# Altium schematic symbol library GRM31CR61E476ME44K.SchLib: 1 symbol
Pins are listed as number, name and electrical type; pins without a type are passive.

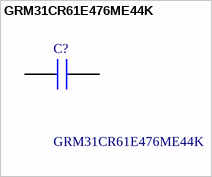
[diagram p0: symbol GRM31CR61E476ME44K]

## GRM31CR61E476ME44K
designator C?
Multilayer Ceramic Capacitors MLCC - SMD/SMT; Manufacturer_Name: Murata Electronics; Geometry.Height: 1.8mm; Manufacturer_Part_Number: GRM31CR61E476ME44K; Mouser Part Number: 81-GRM31CR61E476ME4K; Mouser Price/Stock: https://www.mouser.co.uk/ProductDetail/Murata-Electronics/GRM31CR61E476ME44K?qs=qkDYIeTQ%252BEkBdMQRO7O96A%3D%3D; Arrow Part Number: GRM31CR61E476ME44K; Arrow Price/Stock: https://www.arrow.com/en/products/grm31cr61e476me44k/murata-manufacturing; Datasheet Link: http://www.murata.com/~/media/webrenewal/support/library/catalog/products/capacitor/mlcc/c02e.pdf
footprint CAPC3216X180N
pins: 1, 2